# EAGLE library part T5100_MEM (library Ketturi electronics)
Toshiba T5100 Memory connector Pinout for T5100 memory module
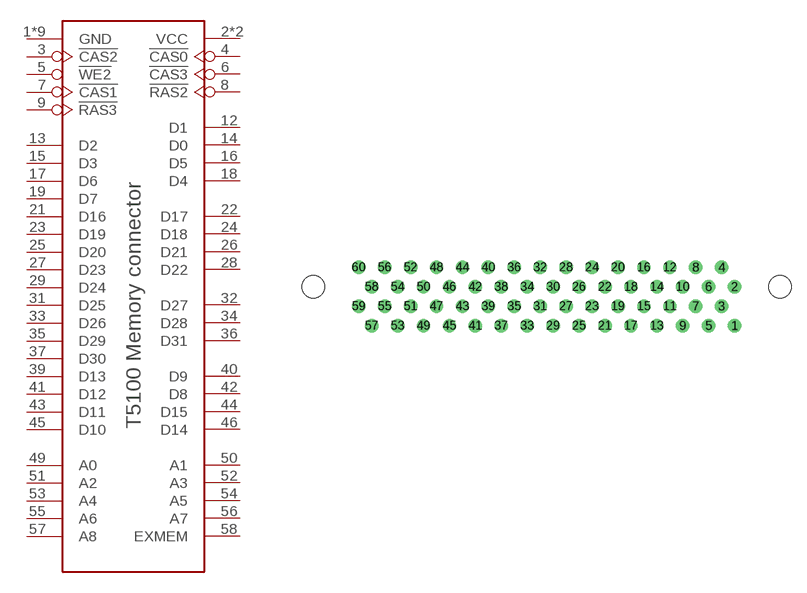
[diagram p7: symbol with the pads of P50-060S-RR1-EA; footprint P50-060S-RR1-EA]

Designator prefix -

## T5100_MEM  [P50-060S-RR1-EA]
1  GND  pwr
2  VCC  pwr
3  !CAS2  out
4  !CAS0  out
5  !WE2  out
6  !CAS3  out
7  !CAS1  out
8  !RAS2  out
9  !RAS3  out
10  GND  pwr
11  GND  pwr
12  D1
13  D2
14  D0
15  D3
16  D5
17  D6
18  D4
19  D7
20  GND  pwr
21  D16
22  D17
23  D19
24  D18
25  D20
26  D21
27  D23
28  D22
29  D24
30  GND  pwr
31  D25
32  D27
33  D26
34  D28
35  D29
36  D31
37  D30
38  GND  pwr
39  D13
40  D9
41  D12
42  D8
43  D11
44  D15
45  D10
46  D14
47  GND  pwr
48  GND  pwr
49  A0  out
50  A1  out
51  A2  out
52  A3  out
53  A4  out
54  A5  out
55  A6  out
56  A7  out
57  A8  out
58  EXMEM  out
59  GND  pwr
60  VCC  pwr

## Footprint P50-060S-RR1-EA (pad centres in mm)
drill 0.8: 1 17.78,-3.81; 2 17.78,0; 3 16.51,-1.905; 4 16.51,1.905; 5 15.24,-3.81; 6 15.24,0; 7 13.97,-1.905; 8 13.97,1.905; 9 12.7,-3.81; 10 12.7,0; 11 11.43,-1.905; 12 11.43,1.905; 13 10.16,-3.81; 14 10.16,0; 15 8.89,-1.905; 16 8.89,1.905; 17 7.62,-3.81; 18 7.62,0; 19 6.35,-1.905; 20 6.35,1.905; 21 5.08,-3.81; 22 5.08,0; 23 3.81,-1.905; 24 3.81,1.905; 25 2.54,-3.81; 26 2.54,0; 27 1.27,-1.905; 28 1.27,1.905; 29 0,-3.81; 30 0,0; 31 -1.27,-1.905; 32 -1.27,1.905; 33 -2.54,-3.81; 34 -2.54,0; 35 -3.81,-1.905; 36 -3.81,1.905; 37 -5.08,-3.81; 38 -5.08,0; 39 -6.35,-1.905; 40 -6.35,1.905; 41 -7.62,-3.81; 42 -7.62,0; 43 -8.89,-1.905; 44 -8.89,1.905; 45 -10.16,-3.81; 46 -10.16,0; 47 -11.43,-1.905; 48 -11.43,1.905; 49 -12.7,-3.81; 50 -12.7,0; 51 -13.97,-1.905; 52 -13.97,1.905; 53 -15.24,-3.81; 54 -15.24,0; 55 -16.51,-1.905; 56 -16.51,1.905; 57 -17.78,-3.81; 58 -17.78,0; 59 -19.05,-1.905; 60 -19.05,1.905
hole 2.2 at 22.225,0
hole 2.2 at -23.495,0